# Altium schematic symbol library USB3.1TYPE-C 16PF-26.SchLib: 1 symbol
Pins are listed as number, name and electrical type; pins without a type are passive.

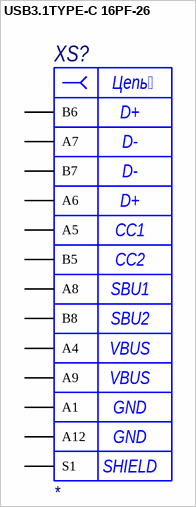
[diagram p0: symbol USB3.1TYPE-C 16PF-26]

## USB3.1TYPE-C 16PF-26
designator XS?
CONN TYPE-C 16pin; Value: *
pins: A1, A4, A5, A6, A7, A8, A9, A12, B5, B6, B7, B8, S1
text: Цепь; D+; D-; CC1; CC2; SBU1; SBU2; VBUS; GND; SHIELD